# EAGLE library part C-CA (library cap-pan40)
CHIP CAP ARRAY
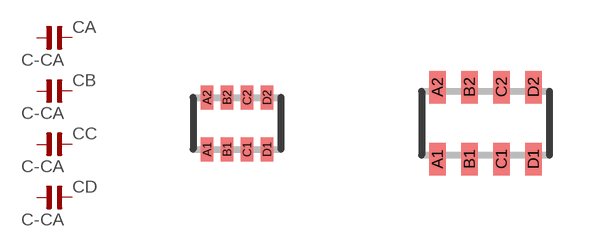
[diagram p0: symbol with the pads of ECJ-0805; footprints ECJ-0805, ECJ-1206]

Designator prefix C; gates A=C-NP B=C-NP C=C-NP D=C-NP

## C-CA-SMD-ECJ-0805  [ECJ-0805]
A1  A:1  pas
A2  A:2  pas
B1  B:1  pas
B2  B:2  pas
C1  C:1  pas
C2  C:2  pas
D1  D:1  pas
D2  D:2  pas

## C-CA-SMD-ECJ-1206  [ECJ-1206]
Pads as for ECJ-0805

## Footprint ECJ-0805 (pad centres in mm)
CAPACITOR ARRAY 0.8 mm lead spacing, ECJ-0805 Series, grid 0.05 mm
smd 0.305 x 0.61: A1 -0.75,-0.65; A2 -0.75,0.65; B1 -0.25,-0.65; B2 -0.25,0.65; C1 0.25,-0.65; C2 0.25,0.65; D1 0.75,-0.65; D2 0.75,0.65

## Footprint ECJ-1206 (pad centres in mm)
CAPACITOR ARRAY 0.8 mm lead spacing, ECJ-1206 Series, grid 0.10 mm
smd 0.406 x 0.813: A1 -1.2,-0.9; A2 -1.2,0.9; B1 -0.4,-0.9; B2 -0.4,0.9; C1 0.4,-0.9; C2 0.4,0.9; D1 1.2,-0.9; D2 1.2,0.9